# EAGLE library part LT3485-0 (library PowerProducts)
LT-Spice library generated with : ltspice.ulp from: E:/Programme/LTC/LTspiceIV/lib/sym/PowerProducts/LT3485-1*.asy at 05.10.2012 11:19:32
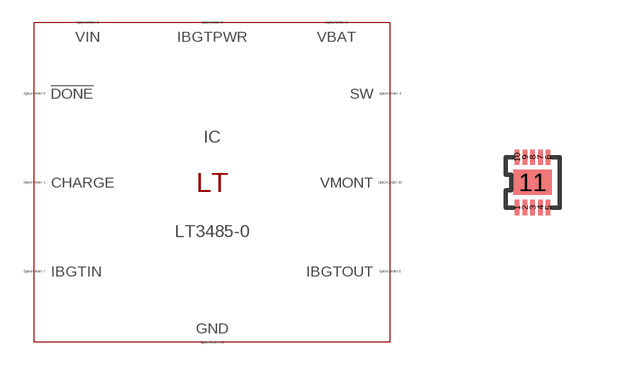
[diagram p52: symbol with the pads of DFN10(DD); footprint DFN10(DD)]

Designator prefix IC

## LT3485-0 (SPICEMODEL: LT1762.lib; SPICEPREFIX: X; VALUE2: LT1762)  [DFN10(DD)]
1  CHARGE  pas
2  VBAT  pas
3  VIN  pas
4  SW  pas
5  SW  pas
6  IBGTOUT  pas
7  IBGTIN  pas
8  IBGTPWR  pas
9  !DONE  pas
10  VMONT  pas
11  GND  pas

## Footprint DFN10(DD) (pad centres in mm)
Package generated from: DFN10(DD).asc (!PADS-POWERPCB-V9.3-BASIC! DESIGN DATABASE ASCII FILE 1.0) with :import-pads-powerpcb-v5.ulp Version 1.0.1 at 04.10.2012 14:11:16
smd 0.116 x 0.387: 1 -0.387,-0.629; 2 -0.194,-0.629; 3 0,-0.629; 4 0.194,-0.629; 5 0.387,-0.629; 6 0.387,0.629; 7 0.194,0.629; 8 0,0.629; 9 -0.194,0.629; 10 -0.387,0.629
smd 0.968 x 0.629: 11 0,0